# EAGLE library part 1365-52 (library con-leotronics)
DUAL ROW STRAIGHT HEADER 1364 SERIES. 1.27mm x 1.27mm. Without Fixing Post. SMT Source: http://www.leotronics.co.uk/Conexcon/Data%20Sheets/sec.%20A/1364ing.pdf
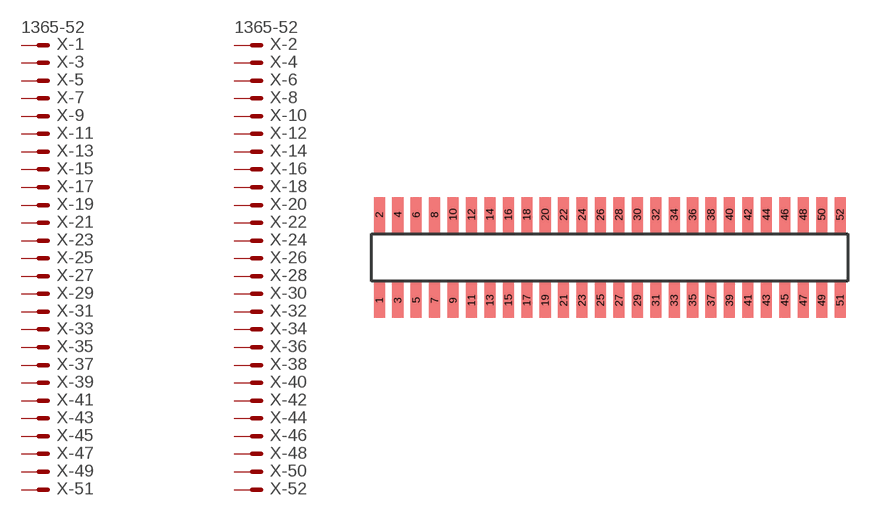
[diagram p47: symbol with the pads of 1365-52; footprint 1365-52]

Designator prefix X; gates -1=MVAL -2=MVAL -3=M -4=M -5=M -6=M -7=M -8=M -9=M -10=M -11=M -12=M -13=M -14=M -15=M -16=M -17=M -18=M -19=M -20=M -21=M -22=M -23=M -24=M -25=M -26=M -27=M -28=M -29=M -30=M -31=M -32=M -33=M -34=M -35=M -36=M -37=M -38=M -39=M -40=M -41=M -42=M -43=M -44=M -45=M -46=M -47=M -48=M -49=M -50=M -51=M -52=M

## 1365-52 (OC_FARNELL: unknown; OC_NEWARK: unknown)  [1365-52]
1  -1:S  pas
2  -2:S  pas
3  -3:S  pas
4  -4:S  pas
5  -5:S  pas
6  -6:S  pas
7  -7:S  pas
8  -8:S  pas
9  -9:S  pas
10  -10:S  pas
11  -11:S  pas
12  -12:S  pas
13  -13:S  pas
14  -14:S  pas
15  -15:S  pas
16  -16:S  pas
17  -17:S  pas
18  -18:S  pas
19  -19:S  pas
20  -20:S  pas
21  -21:S  pas
22  -22:S  pas
23  -23:S  pas
24  -24:S  pas
25  -25:S  pas
26  -26:S  pas
27  -27:S  pas
28  -28:S  pas
29  -29:S  pas
30  -30:S  pas
31  -31:S  pas
32  -32:S  pas
33  -33:S  pas
34  -34:S  pas
35  -35:S  pas
36  -36:S  pas
37  -37:S  pas
38  -38:S  pas
39  -39:S  pas
40  -40:S  pas
41  -41:S  pas
42  -42:S  pas
43  -43:S  pas
44  -44:S  pas
45  -45:S  pas
46  -46:S  pas
47  -47:S  pas
48  -48:S  pas
49  -49:S  pas
50  -50:S  pas
51  -51:S  pas
52  -52:S  pas

## Footprint 1365-52 (pad centres in mm)
DUAL ROW STRAIGHT HEADER 1364 SERIES. 1.27mm x 1.27mm. Without Fixing Post. SMT Source: http://www.leotronics.co.uk/Conexcon/Data%20Sheets/sec.%20A/1364ing.pdf
smd 0.76 x 2.4: 1 -15.875,-2.95; 2 -15.875,2.95; 3 -14.605,-2.95; 4 -14.605,2.95; 5 -13.335,-2.95; 6 -13.335,2.95; 7 -12.065,-2.95; 8 -12.065,2.95; 9 -10.795,-2.95; 10 -10.795,2.95; 11 -9.525,-2.95; 12 -9.525,2.95; 13 -8.255,-2.95; 14 -8.255,2.95; 15 -6.985,-2.95; 16 -6.985,2.95; 17 -5.715,-2.95; 18 -5.715,2.95; 19 -4.445,-2.95; 20 -4.445,2.95; 21 -3.175,-2.95; 22 -3.175,2.95; 23 -1.905,-2.95; 24 -1.905,2.95; 25 -0.635,-2.95; 26 -0.635,2.95; 27 0.635,-2.95; 28 0.635,2.95; 29 1.905,-2.95; 30 1.905,2.95; 31 3.175,-2.95; 32 3.175,2.95; 33 4.445,-2.95; 34 4.445,2.95; 35 5.715,-2.95; 36 5.715,2.95; 37 6.985,-2.95; 38 6.985,2.95; 39 8.255,-2.95; 40 8.255,2.95; 41 9.525,-2.95; 42 9.525,2.95; 43 10.795,-2.95; 44 10.795,2.95; 45 12.065,-2.95; 46 12.065,2.95; 47 13.335,-2.95; 48 13.335,2.95; 49 14.605,-2.95; 50 14.605,2.95; 51 15.875,-2.95; 52 15.875,2.95